# Altium schematic symbol library PogoPinConnPitch2mm3PinSMDHorizontalFemale.SchLib: 1 symbol
Pins are listed as number, name and electrical type; pins without a type are passive.

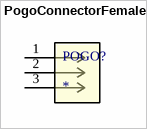
[diagram p0: symbol PogoConnectorFemale]

## PogoConnectorFemale
designator POGO?
footprint PogoConnectorFemale (Pogo pin connector, Pitch 2mm, SMD, Rectangular Angle, 3 Pins, Female)
pins: 1, 2, 3